# Altium integrated library a4988_stepDriver.IntLib: 1 symbol
Pins are listed as number, name and electrical type; pins without a type are passive.

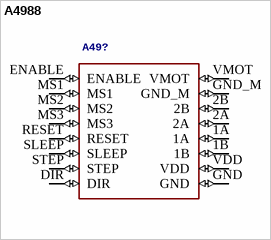
[diagram p0: symbol A4988]

## A4988
designator A49?
GateName_1: G$1; SymbolName_1: A4988; LibraryName: a4988_stepDriver; DeviceSetName: A4988; Package: A4988
footprint A4988
pins: 1A (io), 1B (io), 2A (io), 2B (io), DIR (io), ENABLE (io), GND (io), GND_M (io), MS1 (io), MS2 (io), MS3 (io), RESET (io), SLEEP (io), STEP (io), VDD (io), VMOT (io)